# Altium integrated library NSC Switcher.IntLib: 2027 symbols (part 33 of 54)
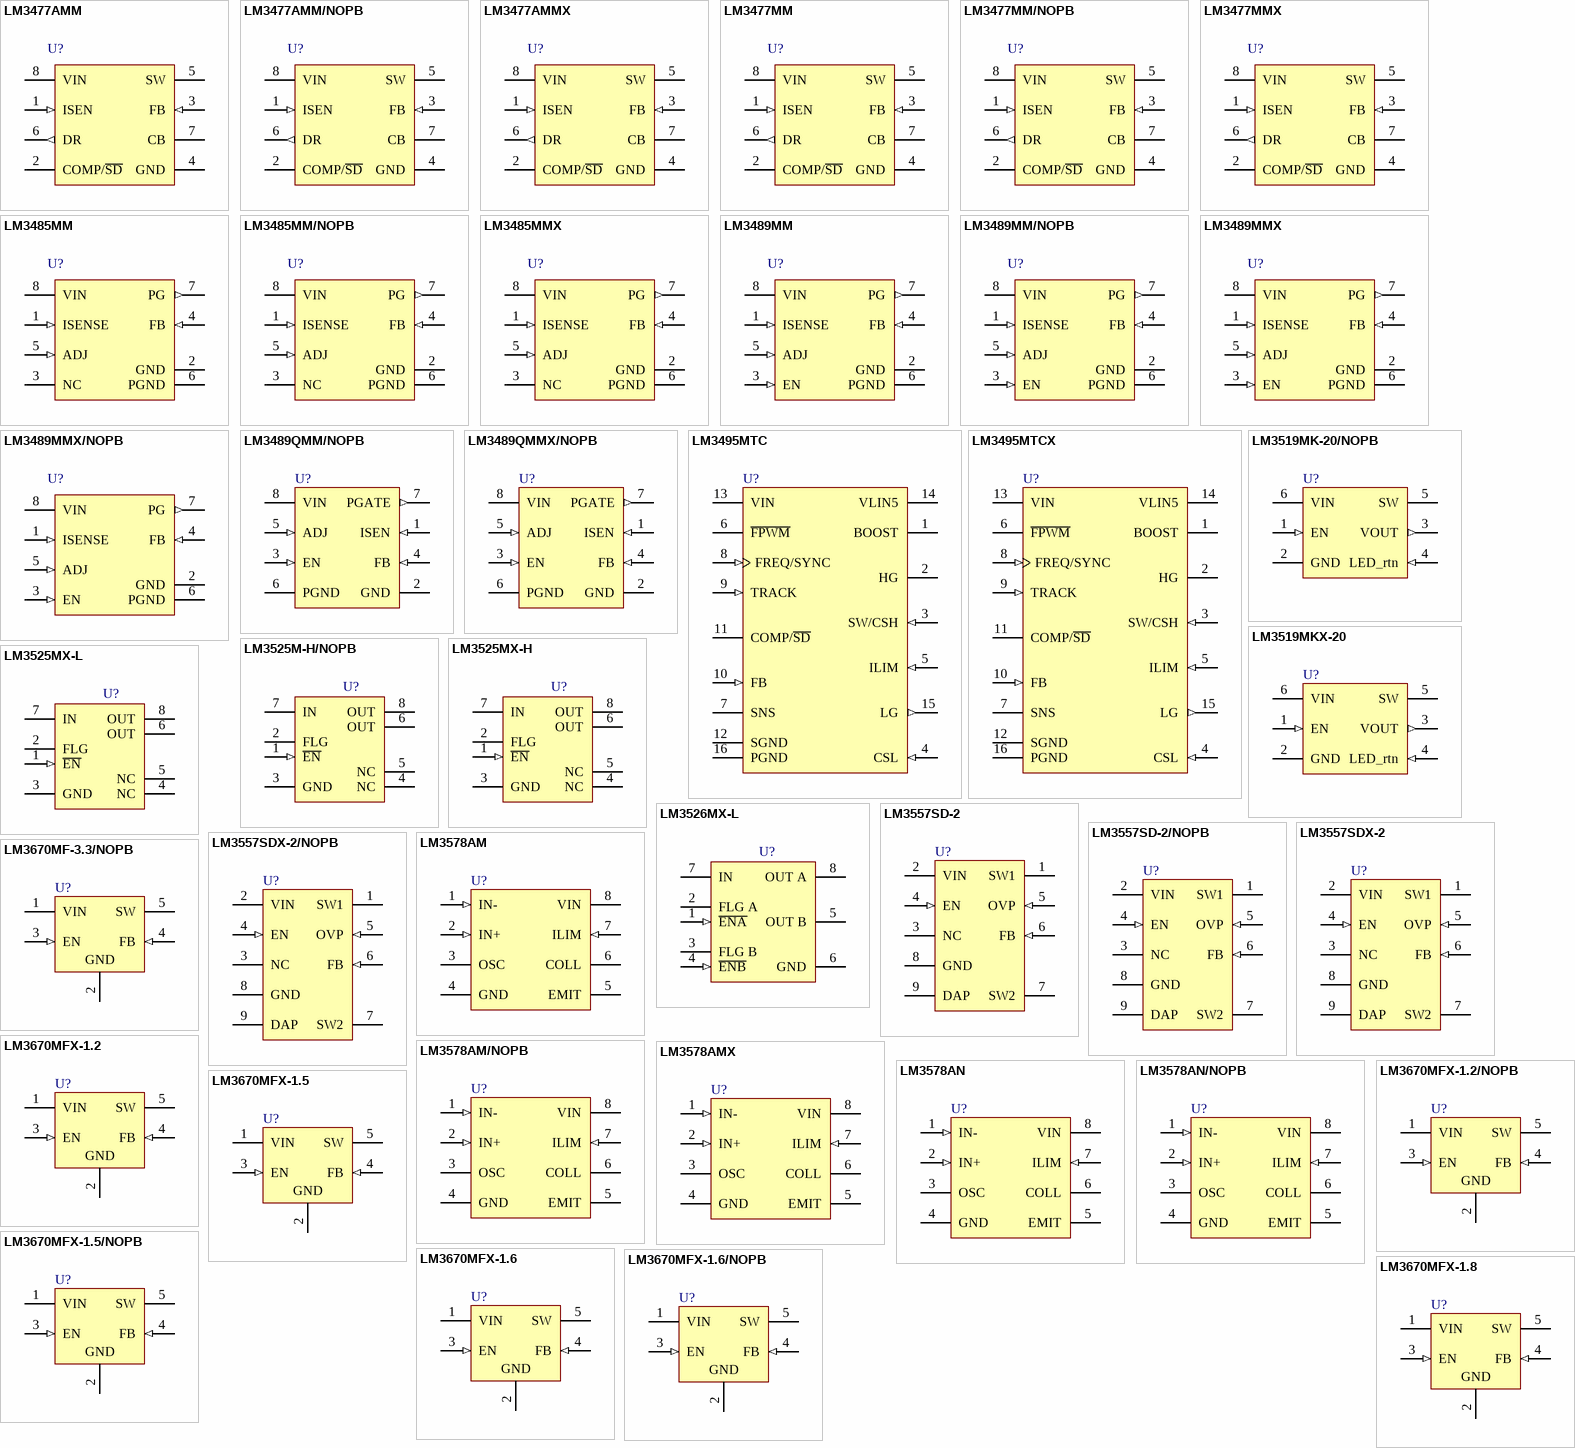
[diagram p95: symbols LM3477AMM to LM3670MFX-1.8]

## LM3557SDX-2/NOPB
designator U?
Step-Up Converter for White LED Applications, 8-pin LLP, Pb-Free; PartNumber: LM3557SDX-2/NOPB; Manufacturer: National Semiconductor; PackageTopMarking: ZXYTT*L147B; PowerWise: Y; CompType: Switcher; Published: 1-Mar-2010; DatasheetVersion: May-2000; PackageVersion: revA, Aug-2003; PackageReference: SDA08A; Publisher: Altium Limited; PackageDescription: LLP, Plastic, Dual, 3 x 3 x 0.8mm Body, 8 Lead, 0.5mm Pitch, No Pullback; Supplier 1: Digi-Key; Supplier Part Number 1: LM3557SDX-2-ND; RoHS: Y; PinCount: 8; ComponentLink1Description: LM3557 Datasheet; ComponentLink1URL: http://www.national.com/ds/LM/LM3557.pdf; ComponentLink2Description: LM3557 Web Page; ComponentLink2URL: http://www.national.com/pf/LM/LM3557.html; ComponentLink3Description: SDA08A Package Page; ComponentLink3URL: http://www.national.com/packaging/folders/sda08a.html
footprint SDA08A (SON, 8-Leads, Body 3x3mm, Pitch 0.5mm, NSC Recommended)
pins: 1 SW1 (power), 2 VIN (power), 3 NC, 4 EN (in), 5 OVP (in), 6 FB (in), 7 SW2 (power), 8 GND (power), 9 DAP (power)

## LM3578AM
designator U?
Switching Regulator, 8-pin Narrow SOIC; PartNumber: LM3578AM; Manufacturer: National Semiconductor; PackageTopMarking: NSZXTT*3578*AM; PowerWise: N; CompType: Switcher; Published: 4-Dec-2008; DatasheetVersion: Feb-2005; PackageVersion: revM, May-2009; PackageReference: M08A; Publisher: Altium Limited; PackageDescription: SOIC Narrow, 4.9 x 3.9 x 1.45mm, 8 Lead, 1.27mm Pitch; Supplier 1: Farnell; Supplier Part Number 1: 1215207; RoHS: N; PinCount: 8; Code_JEDEC: MS-012-AA; Code_IPC: SOIC127P600-8; ComponentLink1Description: LM3578A Datasheet; ComponentLink1URL: http://www.national.com/ds/LM/LM3578A.pdf; ComponentLink2Description: LM3578A Web Page; ComponentLink2URL: http://www.national.com/pf/LM/LM3578A.html; ComponentLink3Description: M08A Package Page; ComponentLink3URL: http://www.national.com/packaging/folders/m08a.html
footprint M08A_N (SOIC, 8-Leads, Body 4.9x3.9mm, Pitch 1.27mm, IPC Medium Density)
footprint M08A_L (SOIC, 8-Leads, Body 4.9x3.9mm, Pitch 1.27mm, IPC High Density)
footprint M08A_M (SOIC, 8-Leads, Body 4.9x3.9mm, Pitch 1.27mm, IPC Low Density)
pins: 1 IN- (in), 2 IN+ (in), 3 OSC, 4 GND (power), 5 EMIT (oe), 6 COLL (oc), 7 ILIM (in), 8 VIN (power)

## LM3578AM/NOPB
designator U?
Switching Regulator, 8-pin Narrow SOIC, Pb-Free; PartNumber: LM3578AM/NOPB; Manufacturer: National Semiconductor; PackageTopMarking: NSZXTT*3578*AM; PowerWise: N; CompType: Switcher; Published: 1-Mar-2010; DatasheetVersion: Feb-2005; PackageVersion: revM, May-2009; PackageReference: M08A; Publisher: Altium Limited; PackageDescription: SOIC Narrow, 4.9 x 3.9 x 1.45mm, 8 Lead, 1.27mm Pitch; Supplier 1: Digi-Key; Supplier Part Number 1: LM3578AM-ND; Supplier 2: Farnell; Supplier Part Number 2: 1694013; RoHS: Y; PinCount: 8; Code_JEDEC: MS-012-AA; Code_IPC: SOIC127P600-8; ComponentLink1Description: LM3578A Datasheet; ComponentLink1URL: http://www.national.com/ds/LM/LM3578A.pdf; ComponentLink2Description: LM3578A Web Page; ComponentLink2URL: http://www.national.com/pf/LM/LM3578A.html; ComponentLink3Description: M08A Package Page; ComponentLink3URL: http://www.national.com/packaging/folders/m08a.html
footprint M08A_N (SOIC, 8-Leads, Body 4.9x3.9mm, Pitch 1.27mm, IPC Medium Density)
footprint M08A_L (SOIC, 8-Leads, Body 4.9x3.9mm, Pitch 1.27mm, IPC High Density)
footprint M08A_M (SOIC, 8-Leads, Body 4.9x3.9mm, Pitch 1.27mm, IPC Low Density)
pins: 1 IN- (in), 2 IN+ (in), 3 OSC, 4 GND (power), 5 EMIT (oe), 6 COLL (oc), 7 ILIM (in), 8 VIN (power)

## LM3578AMX
designator U?
Switching Regulator, 8-pin Narrow SOIC; PartNumber: LM3578AMX; Manufacturer: National Semiconductor; PackageTopMarking: NSZXTT*3578*AM; PowerWise: N; CompType: Switcher; Published: 1-Mar-2010; DatasheetVersion: Feb-2005; PackageVersion: revM, May-2009; PackageReference: M08A; Publisher: Altium Limited; PackageDescription: SOIC Narrow, 4.9 x 3.9 x 1.45mm, 8 Lead, 1.27mm Pitch; RoHS: N; PinCount: 8; Code_JEDEC: MS-012-AA; Code_IPC: SOIC127P600-8; ComponentLink1Description: LM3578A Datasheet; ComponentLink1URL: http://www.national.com/ds/LM/LM3578A.pdf; ComponentLink2Description: LM3578A Web Page; ComponentLink2URL: http://www.national.com/pf/LM/LM3578A.html; ComponentLink3Description: M08A Package Page; ComponentLink3URL: http://www.national.com/packaging/folders/m08a.html
footprint M08A_N (SOIC, 8-Leads, Body 4.9x3.9mm, Pitch 1.27mm, IPC Medium Density)
footprint M08A_L (SOIC, 8-Leads, Body 4.9x3.9mm, Pitch 1.27mm, IPC High Density)
footprint M08A_M (SOIC, 8-Leads, Body 4.9x3.9mm, Pitch 1.27mm, IPC Low Density)
pins: 1 IN- (in), 2 IN+ (in), 3 OSC, 4 GND (power), 5 EMIT (oe), 6 COLL (oc), 7 ILIM (in), 8 VIN (power)

## LM3578AN
designator U?
Switching Regulator, 8-pin MDIP; PartNumber: LM3578AN; Manufacturer: National Semiconductor; PackageTopMarking: NSUZXYTTE#*LM3578AN; PowerWise: N; CompType: Switcher; Published: 4-Dec-2008; DatasheetVersion: Feb-2005; PackageVersion: revG, May-2006; PackageReference: N08E; Publisher: Altium Limited; PackageDescription: MDIP, .365 x .250 x .130in, 8 Lead, .100in Pitch; Supplier 1: Farnell; Supplier Part Number 1: 9488170; RoHS: N; PinCount: 8; Code_JEDEC: MS-001-BA; ComponentLink1Description: LM3578A Datasheet; ComponentLink1URL: http://www.national.com/ds/LM/LM3578A.pdf; ComponentLink2Description: LM3578A Web Page; ComponentLink2URL: http://www.national.com/pf/LM/LM3578A.html; ComponentLink3Description: N08E Package Page; ComponentLink3URL: http://www.national.com/packaging/folders/n08e.html
footprint N08E (DIP, 8-Leads, Row Spacing 7.62mm, Pitch 2.54mm, Body 9.91x6.35mm)
pins: 1 IN- (in), 2 IN+ (in), 3 OSC, 4 GND (power), 5 EMIT (oe), 6 COLL (oc), 7 ILIM (in), 8 VIN (power)

## LM3578AN/NOPB
designator U?
Switching Regulator, 8-pin MDIP, Pb-Free; PartNumber: LM3578AN/NOPB; Manufacturer: National Semiconductor; PackageTopMarking: NSUZXYTTE#*LM3578AN; PowerWise: N; CompType: Switcher; Published: 1-Mar-2010; DatasheetVersion: Feb-2005; PackageVersion: revG, May-2006; PackageReference: N08E; Publisher: Altium Limited; PackageDescription: MDIP, .365 x .250 x .130in, 8 Lead, .100in Pitch; Supplier 1: Digi-Key; Supplier Part Number 1: LM3578AN-ND; Supplier 2: Farnell; Supplier Part Number 2: 1179737; RoHS: Y; PinCount: 8; Code_JEDEC: MS-001-BA; ComponentLink1Description: LM3578A Datasheet; ComponentLink1URL: http://www.national.com/ds/LM/LM3578A.pdf; ComponentLink2Description: LM3578A Web Page; ComponentLink2URL: http://www.national.com/pf/LM/LM3578A.html; ComponentLink3Description: N08E Package Page; ComponentLink3URL: http://www.national.com/packaging/folders/n08e.html
footprint N08E (DIP, 8-Leads, Row Spacing 7.62mm, Pitch 2.54mm, Body 9.91x6.35mm)
pins: 1 IN- (in), 2 IN+ (in), 3 OSC, 4 GND (power), 5 EMIT (oe), 6 COLL (oc), 7 ILIM (in), 8 VIN (power)

## LM3670MF-3.3/NOPB
designator U?
Miniature Step-Down DC-DC Converter for Ultra Low Voltage Circuits, 5-pin SOT-23, Pb-Free; PartNumber: LM3670MF-3.3/NOPB; Manufacturer: National Semiconductor; PackageTopMarking: SDEB*XTT; PowerWise: Y; CompType: Switcher; Published: 1-Mar-2010; DatasheetVersion: Jan-2006; PackageVersion: revD, Aug-2008; PackageReference: MF05A; Publisher: Altium Limited; PackageDescription: Molded SOT-23, .115 x .063 x .040 in Body, 5 Lead, .0375 in Pitch; Supplier 1: Digi-Key; Supplier Part Number 1: LM3670MF-3.3TR-ND; Supplier 2: Digi-Key; Supplier Part Number 2: LM3670MF-3.3CT-ND; Supplier 3: Digi-Key; Supplier Part Number 3: LM3670MF-3.3DKR-ND; Supplier 4: Farnell; Supplier Part Number 4: 1685757; RoHS: Y; PinCount: 5; ComponentLink1Description: LM3670 Datasheet; ComponentLink1URL: http://www.national.com/ds/LM/LM3670.pdf; ComponentLink2Description: LM3670 Web Page; ComponentLink2URL: http://www.national.com/pf/LM/LM3670.html; ComponentLink3Description: MF05A Package Page; ComponentLink3URL: http://www.national.com/packaging/folders/mf05a.html
footprint MF05A_N (SOT23, 5-Leads, Body 2.9x1.6mm, Pitch 0.95mm, Lead Span 2.8mm, IPC Medium Density)
footprint MF05A_L (SOT23, 5-Leads, Body 2.9x1.6mm, Pitch 0.95mm, Lead Span 2.8mm, IPC High Density)
footprint MF05A_M (SOT23, 5-Leads, Body 2.9x1.6mm, Pitch 0.95mm, Lead Span 2.8mm, IPC Low Density)
pins: 1 VIN (power), 2 GND (power), 3 EN (in), 4 FB (in), 5 SW (power)

## LM3670MFX-1.2
designator U?
Miniature Step-Down DC-DC Converter for Ultra Low Voltage Circuits, 5-pin SOT-23; PartNumber: LM3670MFX-1.2; Manufacturer: National Semiconductor; PackageTopMarking: SCZB*XTT; PowerWise: Y; CompType: Switcher; Published: 1-Mar-2010; DatasheetVersion: Jan-2006; PackageVersion: revD, Aug-2008; PackageReference: MF05A; Publisher: Altium Limited; PackageDescription: Molded SOT-23, .115 x .063 x .040 in Body, 5 Lead, .0375 in Pitch; RoHS: N; PinCount: 5; ComponentLink1Description: LM3670 Datasheet; ComponentLink1URL: http://www.national.com/ds/LM/LM3670.pdf; ComponentLink2Description: LM3670 Web Page; ComponentLink2URL: http://www.national.com/pf/LM/LM3670.html; ComponentLink3Description: MF05A Package Page; ComponentLink3URL: http://www.national.com/packaging/folders/mf05a.html
footprint MF05A_N (SOT23, 5-Leads, Body 2.9x1.6mm, Pitch 0.95mm, Lead Span 2.8mm, IPC Medium Density)
footprint MF05A_L (SOT23, 5-Leads, Body 2.9x1.6mm, Pitch 0.95mm, Lead Span 2.8mm, IPC High Density)
footprint MF05A_M (SOT23, 5-Leads, Body 2.9x1.6mm, Pitch 0.95mm, Lead Span 2.8mm, IPC Low Density)
pins: 1 VIN (power), 2 GND (power), 3 EN (in), 4 FB (in), 5 SW (power)

## LM3670MFX-1.2/NOPB
designator U?
Miniature Step-Down DC-DC Converter for Ultra Low Voltage Circuits, 5-pin SOT-23, Pb-Free; PartNumber: LM3670MFX-1.2/NOPB; Manufacturer: National Semiconductor; PackageTopMarking: SCZB*XTT; PowerWise: Y; CompType: Switcher; Published: 1-Mar-2010; DatasheetVersion: Jan-2006; PackageVersion: revD, Aug-2008; PackageReference: MF05A; Publisher: Altium Limited; PackageDescription: Molded SOT-23, .115 x .063 x .040 in Body, 5 Lead, .0375 in Pitch; Supplier 1: Digi-Key; Supplier Part Number 1: LM3670MFX-1.2-ND; RoHS: Y; PinCount: 5; ComponentLink1Description: LM3670 Datasheet; ComponentLink1URL: http://www.national.com/ds/LM/LM3670.pdf; ComponentLink2Description: LM3670 Web Page; ComponentLink2URL: http://www.national.com/pf/LM/LM3670.html; ComponentLink3Description: MF05A Package Page; ComponentLink3URL: http://www.national.com/packaging/folders/mf05a.html
footprint MF05A_N (SOT23, 5-Leads, Body 2.9x1.6mm, Pitch 0.95mm, Lead Span 2.8mm, IPC Medium Density)
footprint MF05A_L (SOT23, 5-Leads, Body 2.9x1.6mm, Pitch 0.95mm, Lead Span 2.8mm, IPC High Density)
footprint MF05A_M (SOT23, 5-Leads, Body 2.9x1.6mm, Pitch 0.95mm, Lead Span 2.8mm, IPC Low Density)
pins: 1 VIN (power), 2 GND (power), 3 EN (in), 4 FB (in), 5 SW (power)

## LM3670MFX-1.5
designator U?
Miniature Step-Down DC-DC Converter for Ultra Low Voltage Circuits, 5-pin SOT-23; PartNumber: LM3670MFX-1.5; Manufacturer: National Semiconductor; PackageTopMarking: S82B*XTT; PowerWise: Y; CompType: Switcher; Published: 1-Mar-2010; DatasheetVersion: Jan-2006; PackageVersion: revD, Aug-2008; PackageReference: MF05A; Publisher: Altium Limited; PackageDescription: Molded SOT-23, .115 x .063 x .040 in Body, 5 Lead, .0375 in Pitch; RoHS: N; PinCount: 5; ComponentLink1Description: LM3670 Datasheet; ComponentLink1URL: http://www.national.com/ds/LM/LM3670.pdf; ComponentLink2Description: LM3670 Web Page; ComponentLink2URL: http://www.national.com/pf/LM/LM3670.html; ComponentLink3Description: MF05A Package Page; ComponentLink3URL: http://www.national.com/packaging/folders/mf05a.html
footprint MF05A_N (SOT23, 5-Leads, Body 2.9x1.6mm, Pitch 0.95mm, Lead Span 2.8mm, IPC Medium Density)
footprint MF05A_L (SOT23, 5-Leads, Body 2.9x1.6mm, Pitch 0.95mm, Lead Span 2.8mm, IPC High Density)
footprint MF05A_M (SOT23, 5-Leads, Body 2.9x1.6mm, Pitch 0.95mm, Lead Span 2.8mm, IPC Low Density)
pins: 1 VIN (power), 2 GND (power), 3 EN (in), 4 FB (in), 5 SW (power)

## LM3670MFX-1.5/NOPB
designator U?
Miniature Step-Down DC-DC Converter for Ultra Low Voltage Circuits, 5-pin SOT-23, Pb-Free; PartNumber: LM3670MFX-1.5/NOPB; Manufacturer: National Semiconductor; PackageTopMarking: S82B*XTT; PowerWise: Y; CompType: Switcher; Published: 1-Mar-2010; DatasheetVersion: Jan-2006; PackageVersion: revD, Aug-2008; PackageReference: MF05A; Publisher: Altium Limited; PackageDescription: Molded SOT-23, .115 x .063 x .040 in Body, 5 Lead, .0375 in Pitch; Supplier 1: Digi-Key; Supplier Part Number 1: LM3670MFX-1.5-ND; RoHS: Y; PinCount: 5; ComponentLink1Description: LM3670 Datasheet; ComponentLink1URL: http://www.national.com/ds/LM/LM3670.pdf; ComponentLink2Description: LM3670 Web Page; ComponentLink2URL: http://www.national.com/pf/LM/LM3670.html; ComponentLink3Description: MF05A Package Page; ComponentLink3URL: http://www.national.com/packaging/folders/mf05a.html
footprint MF05A_N (SOT23, 5-Leads, Body 2.9x1.6mm, Pitch 0.95mm, Lead Span 2.8mm, IPC Medium Density)
footprint MF05A_L (SOT23, 5-Leads, Body 2.9x1.6mm, Pitch 0.95mm, Lead Span 2.8mm, IPC High Density)
footprint MF05A_M (SOT23, 5-Leads, Body 2.9x1.6mm, Pitch 0.95mm, Lead Span 2.8mm, IPC Low Density)
pins: 1 VIN (power), 2 GND (power), 3 EN (in), 4 FB (in), 5 SW (power)

## LM3670MFX-1.6
designator U?
Miniature Step-Down DC-DC Converter for Ultra Low Voltage Circuits, 5-pin SOT-23; PartNumber: LM3670MFX-1.6; Manufacturer: National Semiconductor; PackageTopMarking: SDBB*XTT; PowerWise: Y; CompType: Switcher; Published: 1-Mar-2010; DatasheetVersion: Jan-2006; PackageVersion: revD, Aug-2008; PackageReference: MF05A; Publisher: Altium Limited; PackageDescription: Molded SOT-23, .115 x .063 x .040 in Body, 5 Lead, .0375 in Pitch; RoHS: N; PinCount: 5; ComponentLink1Description: LM3670 Datasheet; ComponentLink1URL: http://www.national.com/ds/LM/LM3670.pdf; ComponentLink2Description: LM3670 Web Page; ComponentLink2URL: http://www.national.com/pf/LM/LM3670.html; ComponentLink3Description: MF05A Package Page; ComponentLink3URL: http://www.national.com/packaging/folders/mf05a.html
footprint MF05A_N (SOT23, 5-Leads, Body 2.9x1.6mm, Pitch 0.95mm, Lead Span 2.8mm, IPC Medium Density)
footprint MF05A_L (SOT23, 5-Leads, Body 2.9x1.6mm, Pitch 0.95mm, Lead Span 2.8mm, IPC High Density)
footprint MF05A_M (SOT23, 5-Leads, Body 2.9x1.6mm, Pitch 0.95mm, Lead Span 2.8mm, IPC Low Density)
pins: 1 VIN (power), 2 GND (power), 3 EN (in), 4 FB (in), 5 SW (power)

## LM3670MFX-1.6/NOPB
designator U?
Miniature Step-Down DC-DC Converter for Ultra Low Voltage Circuits, 5-pin SOT-23, Pb-Free; PartNumber: LM3670MFX-1.6/NOPB; Manufacturer: National Semiconductor; PackageTopMarking: SDBB*XTT; PowerWise: Y; CompType: Switcher; Published: 1-Mar-2010; DatasheetVersion: Jan-2006; PackageVersion: revD, Aug-2008; PackageReference: MF05A; Publisher: Altium Limited; PackageDescription: Molded SOT-23, .115 x .063 x .040 in Body, 5 Lead, .0375 in Pitch; Supplier 1: Digi-Key; Supplier Part Number 1: LM3670MFX-1.6-ND; RoHS: Y; PinCount: 5; ComponentLink1Description: LM3670 Datasheet; ComponentLink1URL: http://www.national.com/ds/LM/LM3670.pdf; ComponentLink2Description: LM3670 Web Page; ComponentLink2URL: http://www.national.com/pf/LM/LM3670.html; ComponentLink3Description: MF05A Package Page; ComponentLink3URL: http://www.national.com/packaging/folders/mf05a.html
footprint MF05A_N (SOT23, 5-Leads, Body 2.9x1.6mm, Pitch 0.95mm, Lead Span 2.8mm, IPC Medium Density)
footprint MF05A_L (SOT23, 5-Leads, Body 2.9x1.6mm, Pitch 0.95mm, Lead Span 2.8mm, IPC High Density)
footprint MF05A_M (SOT23, 5-Leads, Body 2.9x1.6mm, Pitch 0.95mm, Lead Span 2.8mm, IPC Low Density)
pins: 1 VIN (power), 2 GND (power), 3 EN (in), 4 FB (in), 5 SW (power)

## LM3670MFX-1.8
designator U?
Miniature Step-Down DC-DC Converter for Ultra Low Voltage Circuits, 5-pin SOT-23; PartNumber: LM3670MFX-1.8; Manufacturer: National Semiconductor; PackageTopMarking: SDCB*XTT; PowerWise: Y; CompType: Switcher; Published: 1-Mar-2010; DatasheetVersion: Jan-2006; PackageVersion: revD, Aug-2008; PackageReference: MF05A; Publisher: Altium Limited; PackageDescription: Molded SOT-23, .115 x .063 x .040 in Body, 5 Lead, .0375 in Pitch; RoHS: N; PinCount: 5; ComponentLink1Description: LM3670 Datasheet; ComponentLink1URL: http://www.national.com/ds/LM/LM3670.pdf; ComponentLink2Description: LM3670 Web Page; ComponentLink2URL: http://www.national.com/pf/LM/LM3670.html; ComponentLink3Description: MF05A Package Page; ComponentLink3URL: http://www.national.com/packaging/folders/mf05a.html
footprint MF05A_N (SOT23, 5-Leads, Body 2.9x1.6mm, Pitch 0.95mm, Lead Span 2.8mm, IPC Medium Density)
footprint MF05A_L (SOT23, 5-Leads, Body 2.9x1.6mm, Pitch 0.95mm, Lead Span 2.8mm, IPC High Density)
footprint MF05A_M (SOT23, 5-Leads, Body 2.9x1.6mm, Pitch 0.95mm, Lead Span 2.8mm, IPC Low Density)
pins: 1 VIN (power), 2 GND (power), 3 EN (in), 4 FB (in), 5 SW (power)

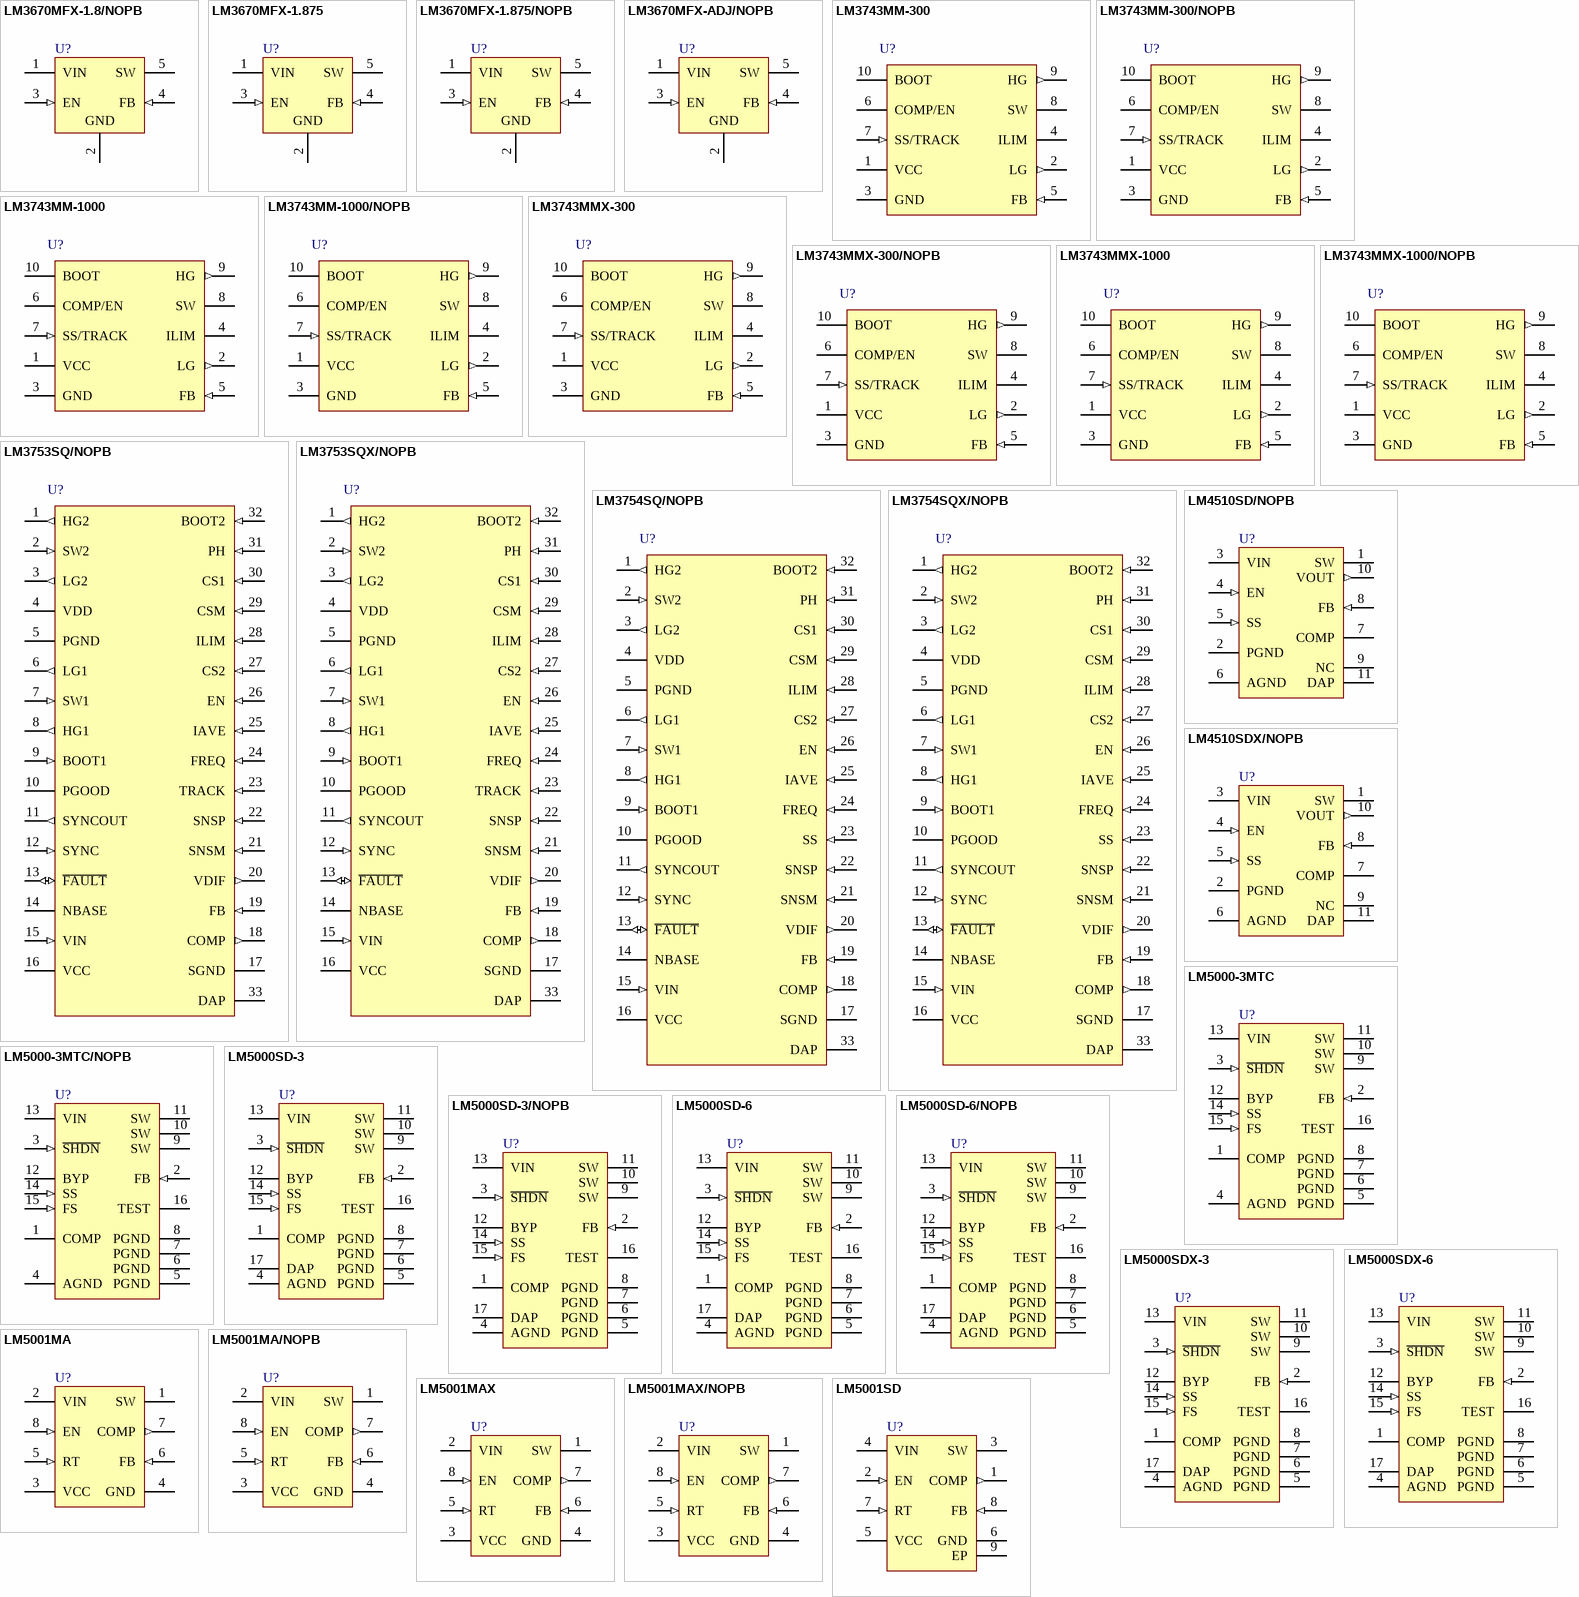
[diagram p36: symbols LM3670MFX-1.8/NOPB to LM5001SD]

## LM3670MFX-1.8/NOPB
designator U?
Miniature Step-Down DC-DC Converter for Ultra Low Voltage Circuits, 5-pin SOT-23, Pb-Free; PartNumber: LM3670MFX-1.8/NOPB; Manufacturer: National Semiconductor; PackageTopMarking: SDCB*XTT; PowerWise: Y; CompType: Switcher; Published: 1-Mar-2010; DatasheetVersion: Jan-2006; PackageVersion: revD, Aug-2008; PackageReference: MF05A; Publisher: Altium Limited; PackageDescription: Molded SOT-23, .115 x .063 x .040 in Body, 5 Lead, .0375 in Pitch; Supplier 1: Digi-Key; Supplier Part Number 1: LM3670MFX-1.8-ND; RoHS: Y; PinCount: 5; ComponentLink1Description: LM3670 Datasheet; ComponentLink1URL: http://www.national.com/ds/LM/LM3670.pdf; ComponentLink2Description: LM3670 Web Page; ComponentLink2URL: http://www.national.com/pf/LM/LM3670.html; ComponentLink3Description: MF05A Package Page; ComponentLink3URL: http://www.national.com/packaging/folders/mf05a.html
footprint MF05A_N (SOT23, 5-Leads, Body 2.9x1.6mm, Pitch 0.95mm, Lead Span 2.8mm, IPC Medium Density)
footprint MF05A_L (SOT23, 5-Leads, Body 2.9x1.6mm, Pitch 0.95mm, Lead Span 2.8mm, IPC High Density)
footprint MF05A_M (SOT23, 5-Leads, Body 2.9x1.6mm, Pitch 0.95mm, Lead Span 2.8mm, IPC Low Density)
pins: 1 VIN (power), 2 GND (power), 3 EN (in), 4 FB (in), 5 SW (power)

## LM3670MFX-1.875
designator U?
Miniature Step-Down DC-DC Converter for Ultra Low Voltage Circuits, 5-pin SOT-23; PartNumber: LM3670MFX-1.875; Manufacturer: National Semiconductor; PackageTopMarking: SEFB*XTT; PowerWise: Y; CompType: Switcher; Published: 1-Mar-2010; DatasheetVersion: Jan-2006; PackageVersion: revD, Aug-2008; PackageReference: MF05A; Publisher: Altium Limited; PackageDescription: Molded SOT-23, .115 x .063 x .040 in Body, 5 Lead, .0375 in Pitch; RoHS: N; PinCount: 5; ComponentLink1Description: LM3670 Datasheet; ComponentLink1URL: http://www.national.com/ds/LM/LM3670.pdf; ComponentLink2Description: LM3670 Web Page; ComponentLink2URL: http://www.national.com/pf/LM/LM3670.html; ComponentLink3Description: MF05A Package Page; ComponentLink3URL: http://www.national.com/packaging/folders/mf05a.html
footprint MF05A_N (SOT23, 5-Leads, Body 2.9x1.6mm, Pitch 0.95mm, Lead Span 2.8mm, IPC Medium Density)
footprint MF05A_L (SOT23, 5-Leads, Body 2.9x1.6mm, Pitch 0.95mm, Lead Span 2.8mm, IPC High Density)
footprint MF05A_M (SOT23, 5-Leads, Body 2.9x1.6mm, Pitch 0.95mm, Lead Span 2.8mm, IPC Low Density)
pins: 1 VIN (power), 2 GND (power), 3 EN (in), 4 FB (in), 5 SW (power)

## LM3670MFX-1.875/NOPB
designator U?
Miniature Step-Down DC-DC Converter for Ultra Low Voltage Circuits, 5-pin SOT-23, Pb-Free; PartNumber: LM3670MFX-1.875/NOPB; Manufacturer: National Semiconductor; PackageTopMarking: SEFB*XTT; PowerWise: Y; CompType: Switcher; Published: 1-Mar-2010; DatasheetVersion: Jan-2006; PackageVersion: revD, Aug-2008; PackageReference: MF05A; Publisher: Altium Limited; PackageDescription: Molded SOT-23, .115 x .063 x .040 in Body, 5 Lead, .0375 in Pitch; Supplier 1: Digi-Key; Supplier Part Number 1: LM3670MFX-1.875-ND; RoHS: Y; PinCount: 5; ComponentLink1Description: LM3670 Datasheet; ComponentLink1URL: http://www.national.com/ds/LM/LM3670.pdf; ComponentLink2Description: LM3670 Web Page; ComponentLink2URL: http://www.national.com/pf/LM/LM3670.html; ComponentLink3Description: MF05A Package Page; ComponentLink3URL: http://www.national.com/packaging/folders/mf05a.html
footprint MF05A_N (SOT23, 5-Leads, Body 2.9x1.6mm, Pitch 0.95mm, Lead Span 2.8mm, IPC Medium Density)
footprint MF05A_L (SOT23, 5-Leads, Body 2.9x1.6mm, Pitch 0.95mm, Lead Span 2.8mm, IPC High Density)
footprint MF05A_M (SOT23, 5-Leads, Body 2.9x1.6mm, Pitch 0.95mm, Lead Span 2.8mm, IPC Low Density)
pins: 1 VIN (power), 2 GND (power), 3 EN (in), 4 FB (in), 5 SW (power)

## LM3670MFX-ADJ/NOPB
designator U?
Miniature Step-Down DC-DC Converter for Ultra Low Voltage Circuits, 5-pin SOT-23, Pb-Free; PartNumber: LM3670MFX-ADJ/NOPB; Manufacturer: National Semiconductor; PackageTopMarking: SDFB*XTT; PowerWise: Y; CompType: Switcher; Published: 1-Mar-2010; DatasheetVersion: Jan-2006; PackageVersion: revD, Aug-2008; PackageReference: MF05A; Publisher: Altium Limited; PackageDescription: Molded SOT-23, .115 x .063 x .040 in Body, 5 Lead, .0375 in Pitch; Supplier 1: Digi-Key; Supplier Part Number 1: LM3670MFX-ADJTR-ND; Supplier 2: Digi-Key; Supplier Part Number 2: LM3670MFX-ADJCT-ND; Supplier 3: Digi-Key; Supplier Part Number 3: LM3670MFX-ADJDKR-ND; RoHS: Y; PinCount: 5; ComponentLink1Description: LM3670 Datasheet; ComponentLink1URL: http://www.national.com/ds/LM/LM3670.pdf; ComponentLink2Description: LM3670 Web Page; ComponentLink2URL: http://www.national.com/pf/LM/LM3670.html; ComponentLink3Description: MF05A Package Page; ComponentLink3URL: http://www.national.com/packaging/folders/mf05a.html
footprint MF05A_N (SOT23, 5-Leads, Body 2.9x1.6mm, Pitch 0.95mm, Lead Span 2.8mm, IPC Medium Density)
footprint MF05A_L (SOT23, 5-Leads, Body 2.9x1.6mm, Pitch 0.95mm, Lead Span 2.8mm, IPC High Density)
footprint MF05A_M (SOT23, 5-Leads, Body 2.9x1.6mm, Pitch 0.95mm, Lead Span 2.8mm, IPC Low Density)
pins: 1 VIN (power), 2 GND (power), 3 EN (in), 4 FB (in), 5 SW (power)

## LM3743MM-300
designator U?
High-Performance Synchronous Buck Controller with Comprehensive Fault Protection Features, 10-pin MSOP; PartNumber: LM3743MM-300; Manufacturer: National Semiconductor; PackageTopMarking: ZXTT*SKPB; PowerWise: Y; CompType: Switcher; Published: 4-Dec-2008; DatasheetVersion: Oct-2008; PackageVersion: revB, Jul-2003; PackageReference: MUB10A; Publisher: Altium Limited; PackageDescription: Mini-SO, Molded, .118 x .118 x .034in Body, 10 Lead, .0197in Pitch; Supplier 1: Farnell; Supplier Part Number 1: 1290937; RoHS: N; PinCount: 10; Code_JEDEC: MO-187-BA; ComponentLink1Description: LM3743 Datasheet; ComponentLink1URL: http://www.national.com/ds/LM/LM3743.pdf; ComponentLink2Description: LM3743 Web Page; ComponentLink2URL: http://www.national.com/pf/LM/LM3743.html; ComponentLink3Description: MUB10A Package Page; ComponentLink3URL: http://www.national.com/packaging/folders/mub10a.html
footprint MUB10A_N (TSSOP, 10-Leads, Body 3x3mm, Pitch 0.5mm, IPC Medium Density)
footprint MUB10A_L (TSSOP, 10-Leads, Body 3x3mm, Pitch 0.5mm, IPC High Density)
footprint MUB10A_M (TSSOP, 10-Leads, Body 3x3mm, Pitch 0.5mm, IPC Low Density)
pins: 1 VCC (power), 2 LG (out), 3 GND (power), 4 ILIM, 5 FB (in), 6 COMP/EN, 7 SS/TRACK (in), 8 SW (power), 9 HG (out), 10 BOOT

## LM3743MM-300/NOPB
designator U?
High-Performance Synchronous Buck Controller with Comprehensive Fault Protection Features, 10-pin MSOP, Pb-Free; PartNumber: LM3743MM-300/NOPB; Manufacturer: National Semiconductor; PackageTopMarking: ZXTT*SKPB; PowerWise: Y; CompType: Switcher; Published: 1-Mar-2010; DatasheetVersion: Oct-2008; PackageVersion: revB, Jul-2003; PackageReference: MUB10A; Publisher: Altium Limited; PackageDescription: Mini-SO, Molded, .118 x .118 x .034in Body, 10 Lead, .0197in Pitch; Supplier 1: Digi-Key; Supplier Part Number 1: LM3743MM-300TR-ND; Supplier 2: Digi-Key; Supplier Part Number 2: LM3743MM-300CT-ND; Supplier 3: Digi-Key; Supplier Part Number 3: LM3743MM-300DKR-ND; RoHS: Y; PinCount: 10; Code_JEDEC: MO-187-BA; ComponentLink1Description: LM3743 Datasheet; ComponentLink1URL: http://www.national.com/ds/LM/LM3743.pdf; ComponentLink2Description: LM3743 Web Page; ComponentLink2URL: http://www.national.com/pf/LM/LM3743.html; ComponentLink3Description: MUB10A Package Page; ComponentLink3URL: http://www.national.com/packaging/folders/mub10a.html
footprint MUB10A_N (TSSOP, 10-Leads, Body 3x3mm, Pitch 0.5mm, IPC Medium Density)
footprint MUB10A_L (TSSOP, 10-Leads, Body 3x3mm, Pitch 0.5mm, IPC High Density)
footprint MUB10A_M (TSSOP, 10-Leads, Body 3x3mm, Pitch 0.5mm, IPC Low Density)
pins: 1 VCC (power), 2 LG (out), 3 GND (power), 4 ILIM, 5 FB (in), 6 COMP/EN, 7 SS/TRACK (in), 8 SW (power), 9 HG (out), 10 BOOT

## LM3743MM-1000
designator U?
High-Performance Synchronous Buck Controller with Comprehensive Fault Protection Features, 10-pin MSOP; PartNumber: LM3743MM-1000; Manufacturer: National Semiconductor; PackageTopMarking: ZXTT*SKNB; PowerWise: Y; CompType: Switcher; Published: 4-Dec-2008; DatasheetVersion: Oct-2008; PackageVersion: revB, Jul-2003; PackageReference: MUB10A; Publisher: Altium Limited; PackageDescription: Mini-SO, Molded, .118 x .118 x .034in Body, 10 Lead, .0197in Pitch; Supplier 1: Farnell; Supplier Part Number 1: 1290936; RoHS: N; PinCount: 10; Code_JEDEC: MO-187-BA; ComponentLink1Description: LM3743 Datasheet; ComponentLink1URL: http://www.national.com/ds/LM/LM3743.pdf; ComponentLink2Description: LM3743 Web Page; ComponentLink2URL: http://www.national.com/pf/LM/LM3743.html; ComponentLink3Description: MUB10A Package Page; ComponentLink3URL: http://www.national.com/packaging/folders/mub10a.html
footprint MUB10A_N (TSSOP, 10-Leads, Body 3x3mm, Pitch 0.5mm, IPC Medium Density)
footprint MUB10A_L (TSSOP, 10-Leads, Body 3x3mm, Pitch 0.5mm, IPC High Density)
footprint MUB10A_M (TSSOP, 10-Leads, Body 3x3mm, Pitch 0.5mm, IPC Low Density)
pins: 1 VCC (power), 2 LG (out), 3 GND (power), 4 ILIM, 5 FB (in), 6 COMP/EN, 7 SS/TRACK (in), 8 SW (power), 9 HG (out), 10 BOOT

## LM3743MM-1000/NOPB
designator U?
High-Performance Synchronous Buck Controller with Comprehensive Fault Protection Features, 10-pin MSOP, Pb-Free; PartNumber: LM3743MM-1000/NOPB; Manufacturer: National Semiconductor; PackageTopMarking: ZXTT*SKNB; PowerWise: Y; CompType: Switcher; Published: 1-Mar-2010; DatasheetVersion: Oct-2008; PackageVersion: revB, Jul-2003; PackageReference: MUB10A; Publisher: Altium Limited; PackageDescription: Mini-SO, Molded, .118 x .118 x .034in Body, 10 Lead, .0197in Pitch; Supplier 1: Digi-Key; Supplier Part Number 1: LM3743MM-1000TR-ND; Supplier 2: Digi-Key; Supplier Part Number 2: LM3743MM-1000CT-ND; Supplier 3: Digi-Key; Supplier Part Number 3: LM3743MM-1000DKR-ND; RoHS: Y; PinCount: 10; Code_JEDEC: MO-187-BA; ComponentLink1Description: LM3743 Datasheet; ComponentLink1URL: http://www.national.com/ds/LM/LM3743.pdf; ComponentLink2Description: LM3743 Web Page; ComponentLink2URL: http://www.national.com/pf/LM/LM3743.html; ComponentLink3Description: MUB10A Package Page; ComponentLink3URL: http://www.national.com/packaging/folders/mub10a.html
footprint MUB10A_N (TSSOP, 10-Leads, Body 3x3mm, Pitch 0.5mm, IPC Medium Density)
footprint MUB10A_L (TSSOP, 10-Leads, Body 3x3mm, Pitch 0.5mm, IPC High Density)
footprint MUB10A_M (TSSOP, 10-Leads, Body 3x3mm, Pitch 0.5mm, IPC Low Density)
pins: 1 VCC (power), 2 LG (out), 3 GND (power), 4 ILIM, 5 FB (in), 6 COMP/EN, 7 SS/TRACK (in), 8 SW (power), 9 HG (out), 10 BOOT

## LM3743MMX-300
designator U?
High-Performance Synchronous Buck Controller with Comprehensive Fault Protection Features, 10-pin MSOP; PartNumber: LM3743MMX-300; Manufacturer: National Semiconductor; PackageTopMarking: ZXTT*SKPB; PowerWise: Y; CompType: Switcher; Published: 1-Mar-2010; DatasheetVersion: Oct-2008; PackageVersion: revB, Jul-2003; PackageReference: MUB10A; Publisher: Altium Limited; PackageDescription: Mini-SO, Molded, .118 x .118 x .034in Body, 10 Lead, .0197in Pitch; RoHS: N; PinCount: 10; Code_JEDEC: MO-187-BA; ComponentLink1Description: LM3743 Datasheet; ComponentLink1URL: http://www.national.com/ds/LM/LM3743.pdf; ComponentLink2Description: LM3743 Web Page; ComponentLink2URL: http://www.national.com/pf/LM/LM3743.html; ComponentLink3Description: MUB10A Package Page; ComponentLink3URL: http://www.national.com/packaging/folders/mub10a.html
footprint MUB10A_N (TSSOP, 10-Leads, Body 3x3mm, Pitch 0.5mm, IPC Medium Density)
footprint MUB10A_L (TSSOP, 10-Leads, Body 3x3mm, Pitch 0.5mm, IPC High Density)
footprint MUB10A_M (TSSOP, 10-Leads, Body 3x3mm, Pitch 0.5mm, IPC Low Density)
pins: 1 VCC (power), 2 LG (out), 3 GND (power), 4 ILIM, 5 FB (in), 6 COMP/EN, 7 SS/TRACK (in), 8 SW (power), 9 HG (out), 10 BOOT

## LM3743MMX-300/NOPB
designator U?
High-Performance Synchronous Buck Controller with Comprehensive Fault Protection Features, 10-pin MSOP, Pb-Free; PartNumber: LM3743MMX-300/NOPB; Manufacturer: National Semiconductor; PackageTopMarking: ZXTT*SKPB; PowerWise: Y; CompType: Switcher; Published: 1-Mar-2010; DatasheetVersion: Oct-2008; PackageVersion: revB, Jul-2003; PackageReference: MUB10A; Publisher: Altium Limited; PackageDescription: Mini-SO, Molded, .118 x .118 x .034in Body, 10 Lead, .0197in Pitch; Supplier 1: Digi-Key; Supplier Part Number 1: LM3743MMX-300-ND; RoHS: Y; PinCount: 10; Code_JEDEC: MO-187-BA; ComponentLink1Description: LM3743 Datasheet; ComponentLink1URL: http://www.national.com/ds/LM/LM3743.pdf; ComponentLink2Description: LM3743 Web Page; ComponentLink2URL: http://www.national.com/pf/LM/LM3743.html; ComponentLink3Description: MUB10A Package Page; ComponentLink3URL: http://www.national.com/packaging/folders/mub10a.html
footprint MUB10A_N (TSSOP, 10-Leads, Body 3x3mm, Pitch 0.5mm, IPC Medium Density)
footprint MUB10A_L (TSSOP, 10-Leads, Body 3x3mm, Pitch 0.5mm, IPC High Density)
footprint MUB10A_M (TSSOP, 10-Leads, Body 3x3mm, Pitch 0.5mm, IPC Low Density)
pins: 1 VCC (power), 2 LG (out), 3 GND (power), 4 ILIM, 5 FB (in), 6 COMP/EN, 7 SS/TRACK (in), 8 SW (power), 9 HG (out), 10 BOOT

## LM3743MMX-1000
designator U?
High-Performance Synchronous Buck Controller with Comprehensive Fault Protection Features, 10-pin MSOP; PartNumber: LM3743MMX-1000; Manufacturer: National Semiconductor; PackageTopMarking: ZXTT*SKNB; PowerWise: Y; CompType: Switcher; Published: 1-Mar-2010; DatasheetVersion: Oct-2008; PackageVersion: revB, Jul-2003; PackageReference: MUB10A; Publisher: Altium Limited; PackageDescription: Mini-SO, Molded, .118 x .118 x .034in Body, 10 Lead, .0197in Pitch; RoHS: N; PinCount: 10; Code_JEDEC: MO-187-BA; ComponentLink1Description: LM3743 Datasheet; ComponentLink1URL: http://www.national.com/ds/LM/LM3743.pdf; ComponentLink2Description: LM3743 Web Page; ComponentLink2URL: http://www.national.com/pf/LM/LM3743.html; ComponentLink3Description: MUB10A Package Page; ComponentLink3URL: http://www.national.com/packaging/folders/mub10a.html
footprint MUB10A_N (TSSOP, 10-Leads, Body 3x3mm, Pitch 0.5mm, IPC Medium Density)
footprint MUB10A_L (TSSOP, 10-Leads, Body 3x3mm, Pitch 0.5mm, IPC High Density)
footprint MUB10A_M (TSSOP, 10-Leads, Body 3x3mm, Pitch 0.5mm, IPC Low Density)
pins: 1 VCC (power), 2 LG (out), 3 GND (power), 4 ILIM, 5 FB (in), 6 COMP/EN, 7 SS/TRACK (in), 8 SW (power), 9 HG (out), 10 BOOT

## LM3743MMX-1000/NOPB
designator U?
High-Performance Synchronous Buck Controller with Comprehensive Fault Protection Features, 10-pin MSOP, Pb-Free; PartNumber: LM3743MMX-1000/NOPB; Manufacturer: National Semiconductor; PackageTopMarking: ZXTT*SKNB; PowerWise: Y; CompType: Switcher; Published: 1-Mar-2010; DatasheetVersion: Oct-2008; PackageVersion: revB, Jul-2003; PackageReference: MUB10A; Publisher: Altium Limited; PackageDescription: Mini-SO, Molded, .118 x .118 x .034in Body, 10 Lead, .0197in Pitch; Supplier 1: Digi-Key; Supplier Part Number 1: LM3743MMX-1000-ND; RoHS: Y; PinCount: 10; Code_JEDEC: MO-187-BA; ComponentLink1Description: LM3743 Datasheet; ComponentLink1URL: http://www.national.com/ds/LM/LM3743.pdf; ComponentLink2Description: LM3743 Web Page; ComponentLink2URL: http://www.national.com/pf/LM/LM3743.html; ComponentLink3Description: MUB10A Package Page; ComponentLink3URL: http://www.national.com/packaging/folders/mub10a.html
footprint MUB10A_N (TSSOP, 10-Leads, Body 3x3mm, Pitch 0.5mm, IPC Medium Density)
footprint MUB10A_L (TSSOP, 10-Leads, Body 3x3mm, Pitch 0.5mm, IPC High Density)
footprint MUB10A_M (TSSOP, 10-Leads, Body 3x3mm, Pitch 0.5mm, IPC Low Density)
pins: 1 VCC (power), 2 LG (out), 3 GND (power), 4 ILIM, 5 FB (in), 6 COMP/EN, 7 SS/TRACK (in), 8 SW (power), 9 HG (out), 10 BOOT

## LM3753SQ/NOPB
designator U?
Scalable 2-Phase Synchronous Buck Controllers with Integrated FET Drivers and Linear Regulator Controller, 32-pin LLP, Pb-Free; PartNumber: LM3753SQ/NOPB; Manufacturer: National Semiconductor; PackageTopMarking: NS*UZXYTT*LM3753; PowerWise: Y; CompType: Switcher; Published: 1-Mar-2010; DatasheetVersion: Dec-2009; PackageVersion: revB, Oct-2009; PackageReference: SQA32A; Publisher: Altium Limited; PackageDescription: LLP, Quad, 5 x 5 x 0.8mm, 32 Lead, 0.5mm Pitch, No Pullback 3.1 x 3.1 Exposed Pad; Supplier 1: Digi-Key; Supplier Part Number 1: LM3753SQTR-ND; Supplier 2: Digi-Key; Supplier Part Number 2: LM3753SQCT-ND; Supplier 3: Digi-Key; Supplier Part Number 3: LM3753SQDKR-ND; Supplier 4: Farnell; Supplier Part Number 4: 1791122; RoHS: Y; PinCount: 32; ComponentLink1Description: LM3753 Datasheet; ComponentLink1URL: http://www.national.com/ds/LM/LM3753.pdf; ComponentLink2Description: LM3753 Web Page; ComponentLink2URL: http://www.national.com/pf/LM/LM3753.html; ComponentLink3Description: SQA32A Package Page; ComponentLink3URL: http://www.national.com/packaging/folders/sqa32a.html
footprint SQA32A (QFN, 32-Leads, Body 5x5mm, Pitch 0.5mm, NSC Recommended)
pins: 1 HG2 (out), 2 SW2 (in), 3 LG2 (out), 4 VDD (power), 5 PGND (power), 6 LG1 (out), 7 SW1 (in), 8 HG1 (out), 9 BOOT1 (in), 10 PGOOD (oc), 11 SYNCOUT (out), 12 SYNC (in), 13 ~{FAULT} (io), 14 NBASE, 15 VIN (in), 16 VCC (power), 17 SGND (power), 18 COMP (out), 19 FB (in), 20 VDIF (out), 21 SNSM (in), 22 SNSP (in), 23 TRACK (in), 24 FREQ (in), 25 IAVE (in), 26 EN (in), 27 CS2 (in), 28 ILIM (in), 29 CSM (in), 30 CS1 (in), 31 PH (in), 32 BOOT2 (in), 33 DAP (power)

## LM3753SQX/NOPB
designator U?
Scalable 2-Phase Synchronous Buck Controllers with Integrated FET Drivers and Linear Regulator Controller, 32-pin LLP, Pb-Free; PartNumber: LM3753SQX/NOPB; Manufacturer: National Semiconductor; PackageTopMarking: NS*UZXYTT*LM3753; PowerWise: Y; CompType: Switcher; Published: 1-Mar-2010; DatasheetVersion: Dec-2009; PackageVersion: revB, Oct-2009; PackageReference: SQA32A; Publisher: Altium Limited; PackageDescription: LLP, Quad, 5 x 5 x 0.8mm, 32 Lead, 0.5mm Pitch, No Pullback 3.1 x 3.1 Exposed Pad; Supplier 1: Digi-Key; Supplier Part Number 1: LM3753SQX-ND; RoHS: Y; PinCount: 32; ComponentLink1Description: LM3753 Datasheet; ComponentLink1URL: http://www.national.com/ds/LM/LM3753.pdf; ComponentLink2Description: LM3753 Web Page; ComponentLink2URL: http://www.national.com/pf/LM/LM3753.html; ComponentLink3Description: SQA32A Package Page; ComponentLink3URL: http://www.national.com/packaging/folders/sqa32a.html
footprint SQA32A (QFN, 32-Leads, Body 5x5mm, Pitch 0.5mm, NSC Recommended)
pins: 1 HG2 (out), 2 SW2 (in), 3 LG2 (out), 4 VDD (power), 5 PGND (power), 6 LG1 (out), 7 SW1 (in), 8 HG1 (out), 9 BOOT1 (in), 10 PGOOD (oc), 11 SYNCOUT (out), 12 SYNC (in), 13 ~{FAULT} (io), 14 NBASE, 15 VIN (in), 16 VCC (power), 17 SGND (power), 18 COMP (out), 19 FB (in), 20 VDIF (out), 21 SNSM (in), 22 SNSP (in), 23 TRACK (in), 24 FREQ (in), 25 IAVE (in), 26 EN (in), 27 CS2 (in), 28 ILIM (in), 29 CSM (in), 30 CS1 (in), 31 PH (in), 32 BOOT2 (in), 33 DAP (power)

## LM3754SQ/NOPB
designator U?
Scalable 2-Phase Synchronous Buck Controllers with Integrated FET Drivers and Linear Regulator Controller, 32-pin LLP, Pb-Free; PartNumber: LM3754SQ/NOPB; Manufacturer: National Semiconductor; PackageTopMarking: NS*UZXYTT*LM3754; PowerWise: Y; CompType: Switcher; Published: 1-Mar-2010; DatasheetVersion: Dec-2009; PackageVersion: revB, Oct-2009; PackageReference: SQA32A; Publisher: Altium Limited; PackageDescription: LLP, Quad, 5 x 5 x 0.8mm, 32 Lead, 0.5mm Pitch, No Pullback 3.1 x 3.1 Exposed Pad; Supplier 1: Digi-Key; Supplier Part Number 1: LM3754SQTR-ND; Supplier 2: Digi-Key; Supplier Part Number 2: LM3754SQCT-ND; Supplier 3: Digi-Key; Supplier Part Number 3: LM3754SQDKR-ND; Supplier 4: Farnell; Supplier Part Number 4: 1791109; RoHS: Y; PinCount: 32; ComponentLink1Description: LM3754 Datasheet; ComponentLink1URL: http://www.national.com/ds/LM/LM3754.pdf; ComponentLink2Description: LM3754 Web Page; ComponentLink2URL: http://www.national.com/pf/LM/LM3754.html; ComponentLink3Description: SQA32A Package Page; ComponentLink3URL: http://www.national.com/packaging/folders/sqa32a.html
footprint SQA32A (QFN, 32-Leads, Body 5x5mm, Pitch 0.5mm, NSC Recommended)
pins: 1 HG2 (out), 2 SW2 (in), 3 LG2 (out), 4 VDD (power), 5 PGND (power), 6 LG1 (out), 7 SW1 (in), 8 HG1 (out), 9 BOOT1 (in), 10 PGOOD (oc), 11 SYNCOUT (out), 12 SYNC (in), 13 ~{FAULT} (io), 14 NBASE, 15 VIN (in), 16 VCC (power), 17 SGND (power), 18 COMP (out), 19 FB (in), 20 VDIF (out), 21 SNSM (in), 22 SNSP (in), 23 SS (in), 24 FREQ (in), 25 IAVE (in), 26 EN (in), 27 CS2 (in), 28 ILIM (in), 29 CSM (in), 30 CS1 (in), 31 PH (in), 32 BOOT2 (in), 33 DAP (power)

## LM3754SQX/NOPB
designator U?
Scalable 2-Phase Synchronous Buck Controllers with Integrated FET Drivers and Linear Regulator Controller, 32-pin LLP, Pb-Free; PartNumber: LM3754SQX/NOPB; Manufacturer: National Semiconductor; PackageTopMarking: NS*UZXYTT*LM3754; PowerWise: Y; CompType: Switcher; Published: 1-Mar-2010; DatasheetVersion: Dec-2009; PackageVersion: revB, Oct-2009; PackageReference: SQA32A; Publisher: Altium Limited; PackageDescription: LLP, Quad, 5 x 5 x 0.8mm, 32 Lead, 0.5mm Pitch, No Pullback 3.1 x 3.1 Exposed Pad; Supplier 1: Digi-Key; Supplier Part Number 1: LM3754SQX-ND; RoHS: Y; PinCount: 32; ComponentLink1Description: LM3754 Datasheet; ComponentLink1URL: http://www.national.com/ds/LM/LM3754.pdf; ComponentLink2Description: LM3754 Web Page; ComponentLink2URL: http://www.national.com/pf/LM/LM3754.html; ComponentLink3Description: SQA32A Package Page; ComponentLink3URL: http://www.national.com/packaging/folders/sqa32a.html
footprint SQA32A (QFN, 32-Leads, Body 5x5mm, Pitch 0.5mm, NSC Recommended)
pins: 1 HG2 (out), 2 SW2 (in), 3 LG2 (out), 4 VDD (power), 5 PGND (power), 6 LG1 (out), 7 SW1 (in), 8 HG1 (out), 9 BOOT1 (in), 10 PGOOD (oc), 11 SYNCOUT (out), 12 SYNC (in), 13 ~{FAULT} (io), 14 NBASE, 15 VIN (in), 16 VCC (power), 17 SGND (power), 18 COMP (out), 19 FB (in), 20 VDIF (out), 21 SNSM (in), 22 SNSP (in), 23 SS (in), 24 FREQ (in), 25 IAVE (in), 26 EN (in), 27 CS2 (in), 28 ILIM (in), 29 CSM (in), 30 CS1 (in), 31 PH (in), 32 BOOT2 (in), 33 DAP (power)

## LM4510SD/NOPB
designator U?
Synchronous Step-Up DC/DC Converter with True Shutdown Isolation, 10-pin LLP, Pb-Free; PartNumber: LM4510SD/NOPB; Manufacturer: National Semiconductor; PackageTopMarking: ZXYTT*L4510; PowerWise: Y; CompType: Switcher; Published: 1-Mar-2010; DatasheetVersion: Oct-2007; PackageVersion: revA, Oct-2003; PackageReference: SDA10A; Publisher: Altium Limited; PackageDescription: LLP, Plastic, Dual, 3 x 3 x 0.8mm Body, 10 Lead, 0.5mm Pitch, No Pullback; Supplier 1: Digi-Key; Supplier Part Number 1: LM4510SDTR-ND; Supplier 2: Digi-Key; Supplier Part Number 2: LM4510SDCT-ND; Supplier 3: Digi-Key; Supplier Part Number 3: LM4510SDDKR-ND; Supplier 4: Farnell; Supplier Part Number 4: 1675316; RoHS: Y; PinCount: 10; ComponentLink1Description: LM4510 Datasheet; ComponentLink1URL: http://www.national.com/ds/LM/LM4510.pdf; ComponentLink2Description: LM4510 Web Page; ComponentLink2URL: http://www.national.com/pf/LM/LM4510.html; ComponentLink3Description: SDA10A Package Page; ComponentLink3URL: http://www.national.com/packaging/folders/sda10a.html
footprint SDA10A (SON, 10-Leads, Body 3x3 mm, Pitch 0.5mm, NSC Recommended)
pins: 1 SW (power), 2 PGND (power), 3 VIN (power), 4 EN (in), 5 SS (in), 6 AGND (power), 7 COMP, 8 FB (in), 9 NC, 10 VOUT (out), 11 DAP (power)

## LM4510SDX/NOPB
designator U?
Synchronous Step-Up DC/DC Converter with True Shutdown Isolation, 10-pin LLP, Pb-Free; PartNumber: LM4510SDX/NOPB; Manufacturer: National Semiconductor; PackageTopMarking: ZXYTT*L4510; PowerWise: Y; CompType: Switcher; Published: 1-Mar-2010; DatasheetVersion: Oct-2007; PackageVersion: revA, Oct-2003; PackageReference: SDA10A; Publisher: Altium Limited; PackageDescription: LLP, Plastic, Dual, 3 x 3 x 0.8mm Body, 10 Lead, 0.5mm Pitch, No Pullback; Supplier 1: Digi-Key; Supplier Part Number 1: LM4510SDX-ND; RoHS: Y; PinCount: 10; ComponentLink1Description: LM4510 Datasheet; ComponentLink1URL: http://www.national.com/ds/LM/LM4510.pdf; ComponentLink2Description: LM4510 Web Page; ComponentLink2URL: http://www.national.com/pf/LM/LM4510.html; ComponentLink3Description: SDA10A Package Page; ComponentLink3URL: http://www.national.com/packaging/folders/sda10a.html
footprint SDA10A (SON, 10-Leads, Body 3x3 mm, Pitch 0.5mm, NSC Recommended)
pins: 1 SW (power), 2 PGND (power), 3 VIN (power), 4 EN (in), 5 SS (in), 6 AGND (power), 7 COMP, 8 FB (in), 9 NC, 10 VOUT (out), 11 DAP (power)

## LM5000-3MTC
designator U?
High Voltage Switch Mode Regulator, 16-pin TSSOP; PartNumber: LM5000-3MTC; Manufacturer: National Semiconductor; PackageTopMarking: NSZXYTT*LM5000*3MTC; PowerWise: N; CompType: Switcher; Published: 4-Dec-2008; DatasheetVersion: Feb-2007; PackageVersion: revD, Jun-2003; PackageReference: MTC16; Publisher: Altium Limited; PackageDescription: Molded TSSOP, Jedec, 5 x 4.4 x 0.9mm Body, 16 Lead, 0.65mm Pitch; Supplier 1: Farnell; Supplier Part Number 1: 9779337; RoHS: N; PinCount: 16; Code_JEDEC: MO-153-AB; ComponentLink1Description: LM5000 Datasheet; ComponentLink1URL: http://www.national.com/ds/LM/LM5000.pdf; ComponentLink2Description: LM5000 Web Page; ComponentLink2URL: http://www.national.com/pf/LM/LM5000.html; ComponentLink3Description: MTC16 Package Page; ComponentLink3URL: http://www.national.com/packaging/folders/mtc16.html
footprint MTC16_N (TSOP, 16-Leads, Body 5x4.4mm, Pitch 0.65mm, IPC Medium Density)
footprint MTC16_L (TSOP, 16-Leads, Body 5x4.4mm, Pitch 0.65mm, IPC High Density)
footprint MTC16_M (TSOP, 16-Leads, Body 5x4.4mm, Pitch 0.65mm, IPC Low Density)
pins: 1 COMP, 2 FB (in), 3 ~{SHDN} (in), 4 AGND (power), 5 PGND (power), 6 PGND (power), 7 PGND (power), 8 PGND (power), 9 SW (power), 10 SW (power), 11 SW (power), 12 BYP, 13 VIN (power), 14 SS (in), 15 FS (in), 16 TEST

## LM5000-3MTC/NOPB
designator U?
High Voltage Switch Mode Regulator, 16-pin TSSOP, Pb-Free; PartNumber: LM5000-3MTC/NOPB; Manufacturer: National Semiconductor; PackageTopMarking: NSZXYTT*LM5000*3MTC; PowerWise: N; CompType: Switcher; Published: 1-Mar-2010; DatasheetVersion: Feb-2007; PackageVersion: revD, Jun-2003; PackageReference: MTC16; Publisher: Altium Limited; PackageDescription: Molded TSSOP, Jedec, 5 x 4.4 x 0.9mm Body, 16 Lead, 0.65mm Pitch; Supplier 1: Digi-Key; Supplier Part Number 1: LM5000-3MTC-ND; Supplier 2: Farnell; Supplier Part Number 2: 1694025; RoHS: Y; PinCount: 16; Code_JEDEC: MO-153-AB; ComponentLink1Description: LM5000 Datasheet; ComponentLink1URL: http://www.national.com/ds/LM/LM5000.pdf; ComponentLink2Description: LM5000 Web Page; ComponentLink2URL: http://www.national.com/pf/LM/LM5000.html; ComponentLink3Description: MTC16 Package Page; ComponentLink3URL: http://www.national.com/packaging/folders/mtc16.html
footprint MTC16_N (TSOP, 16-Leads, Body 5x4.4mm, Pitch 0.65mm, IPC Medium Density)
footprint MTC16_L (TSOP, 16-Leads, Body 5x4.4mm, Pitch 0.65mm, IPC High Density)
footprint MTC16_M (TSOP, 16-Leads, Body 5x4.4mm, Pitch 0.65mm, IPC Low Density)
pins: 1 COMP, 2 FB (in), 3 ~{SHDN} (in), 4 AGND (power), 5 PGND (power), 6 PGND (power), 7 PGND (power), 8 PGND (power), 9 SW (power), 10 SW (power), 11 SW (power), 12 BYP, 13 VIN (power), 14 SS (in), 15 FS (in), 16 TEST

## LM5000SD-3
designator U?
High Voltage Switch Mode Regulator, 16-pin LLP; PartNumber: LM5000SD-3; Manufacturer: National Semiconductor; PackageTopMarking: NS*UZXYTT*5000-3; PowerWise: N; CompType: Switcher; Published: 4-Dec-2008; DatasheetVersion: Feb-2007; PackageVersion: revA, May-2003; PackageReference: SDA16A; Publisher: Altium Limited; PackageDescription: LLP, Plastic, Dual, 5 x 5 x 0.8mm Body,16 Lead, 0.5mm Pitch, No Pullback; RoHS: N; PinCount: 16; ComponentLink1Description: LM5000 Datasheet; ComponentLink1URL: http://www.national.com/ds/LM/LM5000.pdf; ComponentLink2Description: LM5000 Web Page; ComponentLink2URL: http://www.national.com/pf/LM/LM5000.html; ComponentLink3Description: SDA16A Package Page; ComponentLink3URL: http://www.national.com/packaging/folders/sda16a.html
footprint SDA16A (SON, 16-Leads, Body 5x5mm, Pitch 0.5mm, NSC Recommended)
pins: 1 COMP, 2 FB (in), 3 ~{SHDN} (in), 4 AGND (power), 5 PGND (power), 6 PGND (power), 7 PGND (power), 8 PGND (power), 9 SW (power), 10 SW (power), 11 SW (power), 12 BYP, 13 VIN (power), 14 SS (in), 15 FS (in), 16 TEST, 17 DAP (power)

## LM5000SD-3/NOPB
designator U?
High Voltage Switch Mode Regulator, 16-pin LLP, Pb-Free; PartNumber: LM5000SD-3/NOPB; Manufacturer: National Semiconductor; PackageTopMarking: NS*UZXYTT*5000-3; PowerWise: N; CompType: Switcher; Published: 1-Mar-2010; DatasheetVersion: Feb-2007; PackageVersion: revA, May-2003; PackageReference: SDA16A; Publisher: Altium Limited; PackageDescription: LLP, Plastic, Dual, 5 x 5 x 0.8mm Body,16 Lead, 0.5mm Pitch, No Pullback; Supplier 1: Digi-Key; Supplier Part Number 1: LM5000SD-3TR-ND; Supplier 2: Digi-Key; Supplier Part Number 2: LM5000SD-3CT-ND; Supplier 3: Digi-Key; Supplier Part Number 3: LM5000SD-3DKR-ND; Supplier 4: Farnell; Supplier Part Number 4: 1685657; RoHS: Y; PinCount: 16; ComponentLink1Description: LM5000 Datasheet; ComponentLink1URL: http://www.national.com/ds/LM/LM5000.pdf; ComponentLink2Description: LM5000 Web Page; ComponentLink2URL: http://www.national.com/pf/LM/LM5000.html; ComponentLink3Description: SDA16A Package Page; ComponentLink3URL: http://www.national.com/packaging/folders/sda16a.html
footprint SDA16A (SON, 16-Leads, Body 5x5mm, Pitch 0.5mm, NSC Recommended)
pins: 1 COMP, 2 FB (in), 3 ~{SHDN} (in), 4 AGND (power), 5 PGND (power), 6 PGND (power), 7 PGND (power), 8 PGND (power), 9 SW (power), 10 SW (power), 11 SW (power), 12 BYP, 13 VIN (power), 14 SS (in), 15 FS (in), 16 TEST, 17 DAP (power)

## LM5000SD-6
designator U?
High Voltage Switch Mode Regulator, 16-pin LLP; PartNumber: LM5000SD-6; Manufacturer: National Semiconductor; PackageTopMarking: NS*UZXYTT*5000-6; PowerWise: N; CompType: Switcher; Published: 4-Dec-2008; DatasheetVersion: Feb-2007; PackageVersion: revA, May-2003; PackageReference: SDA16A; Publisher: Altium Limited; PackageDescription: LLP, Plastic, Dual, 5 x 5 x 0.8mm Body,16 Lead, 0.5mm Pitch, No Pullback; RoHS: N; PinCount: 16; ComponentLink1Description: LM5000 Datasheet; ComponentLink1URL: http://www.national.com/ds/LM/LM5000.pdf; ComponentLink2Description: LM5000 Web Page; ComponentLink2URL: http://www.national.com/pf/LM/LM5000.html; ComponentLink3Description: SDA16A Package Page; ComponentLink3URL: http://www.national.com/packaging/folders/sda16a.html
footprint SDA16A (SON, 16-Leads, Body 5x5mm, Pitch 0.5mm, NSC Recommended)
pins: 1 COMP, 2 FB (in), 3 ~{SHDN} (in), 4 AGND (power), 5 PGND (power), 6 PGND (power), 7 PGND (power), 8 PGND (power), 9 SW (power), 10 SW (power), 11 SW (power), 12 BYP, 13 VIN (power), 14 SS (in), 15 FS (in), 16 TEST, 17 DAP (power)

## LM5000SD-6/NOPB
designator U?
High Voltage Switch Mode Regulator, 16-pin LLP, Pb-Free; PartNumber: LM5000SD-6/NOPB; Manufacturer: National Semiconductor; PackageTopMarking: NS*UZXYTT*5000-6; PowerWise: N; CompType: Switcher; Published: 1-Mar-2010; DatasheetVersion: Feb-2007; PackageVersion: revA, May-2003; PackageReference: SDA16A; Publisher: Altium Limited; PackageDescription: LLP, Plastic, Dual, 5 x 5 x 0.8mm Body,16 Lead, 0.5mm Pitch, No Pullback; Supplier 1: Digi-Key; Supplier Part Number 1: LM5000SD-6TR-ND; Supplier 2: Digi-Key; Supplier Part Number 2: LM5000SD-6CT-ND; Supplier 3: Digi-Key; Supplier Part Number 3: LM5000SD-6DKR-ND; RoHS: Y; PinCount: 16; ComponentLink1Description: LM5000 Datasheet; ComponentLink1URL: http://www.national.com/ds/LM/LM5000.pdf; ComponentLink2Description: LM5000 Web Page; ComponentLink2URL: http://www.national.com/pf/LM/LM5000.html; ComponentLink3Description: SDA16A Package Page; ComponentLink3URL: http://www.national.com/packaging/folders/sda16a.html
footprint SDA16A (SON, 16-Leads, Body 5x5mm, Pitch 0.5mm, NSC Recommended)
pins: 1 COMP, 2 FB (in), 3 ~{SHDN} (in), 4 AGND (power), 5 PGND (power), 6 PGND (power), 7 PGND (power), 8 PGND (power), 9 SW (power), 10 SW (power), 11 SW (power), 12 BYP, 13 VIN (power), 14 SS (in), 15 FS (in), 16 TEST, 17 DAP (power)